# Altium footprint library SOP254P700X220-4N.PcbLib: 1 footprints
Each footprint in its own frame and in the unit in brackets; x right, y up, seen from the top. Pads: shape width x height; smd on the part's side, far side on the other; paste and mask are expansions set on the pad; w line width, h text height; cw(c..) or ccw(c..) is an arc to the next point about the centre after c.
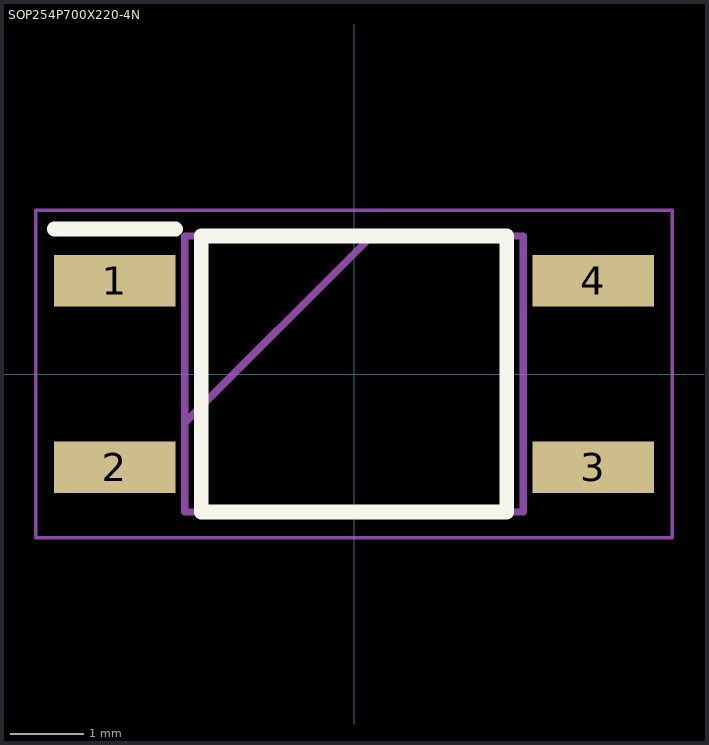
[diagram p0: the footprint, top view; thin cyan lines are the x and y axes]

## SOP254P700X220-4N [mm]
pads (4):
  rect 1.65x0.7 smd: 1(-3.25,1.27) 2(-3.25,-1.27) 3(3.25,-1.27) 4(3.25,1.27)
Top Overlay:
  lines w0.2: -4.075,1.97 -2.425,1.97 ; -2.075,-1.875 2.075,-1.875 2.075,1.875 -2.075,1.875 -2.075,-1.875
Mechanical 15:
  lines w0.1: -2.3,-0.665 0.24,1.875 ; -2.3,-1.875 2.3,-1.875 2.3,1.875 -2.3,1.875 -2.3,-1.875
Mechanical 20:
  lines w0.05: -4.325,-2.225 4.325,-2.225 4.325,2.225 -4.325,2.225 -4.325,-2.225